# Altium footprint library BiricuticoBonito.PcbLib: 34 footprints (part 3 of 3)
Each footprint in its own frame and in the unit in brackets; x right, y up, seen from the top. Pads: shape width x height; smd on the part's side, far side on the other; paste and mask are expansions set on the pad; w line width, h text height; cw(c..) or ccw(c..) is an arc to the next point about the centre after c.
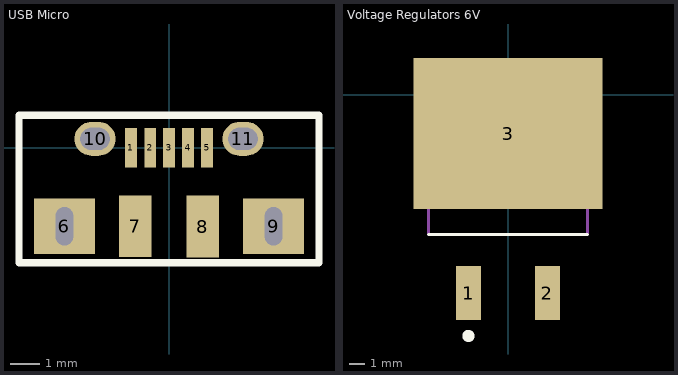
[diagram p2: the footprints below, top view; thin cyan lines are the x and y axes]

## USB Micro [mm]
pads (13):
  rect 0.4x1.35 smd: 1(-1.295,0) 2(-0.64,0) 3(0,0) 4(0.65,0) 5(1.295,0)
  round 0 hole 0.6 slot 1.3 at 90 deg: 6(-3.556,-2.667) 9(3.556,-2.667)
  rect 2.075x1.9 smd: 6(-3.556,-2.667) 9(3.556,-2.667)
  rect 1.1x2.1 smd: 7(-1.143,-2.667) 8(1.15,-2.675)
  oval 1.4x1.15 hole 0.75 slot 1 at 0 deg: 10(-2.515,0.305) 11(2.515,0.305)
Top Overlay:
  lines w0.254: -5.1,-3.9 5.1,-3.9 5.1,1.1 -5.1,1.1 -5.1,-3.9

## Voltage Regulators 6V [mm]
pads (3):
  rect 1.6x3.5 smd: 1(-2.54,-12.775) 2(2.54,-12.775)
  rect 12.2x9.75 smd: 3(0,-2.5)
Top Overlay:
  circle w0.39: c-2.553,-15.542 r0.198
  lines w0.2: -5.138,-9 5.138,-9
Mechanical 13:
  lines w0.2: -5.138,-9 5.138,-9 5.138,0 -5.138,0 -5.138,-9